# Altium schematic symbol library ASM001-design.SchLib: 91 symbols
Pins are listed as number, name and electrical type; pins without a type are passive.

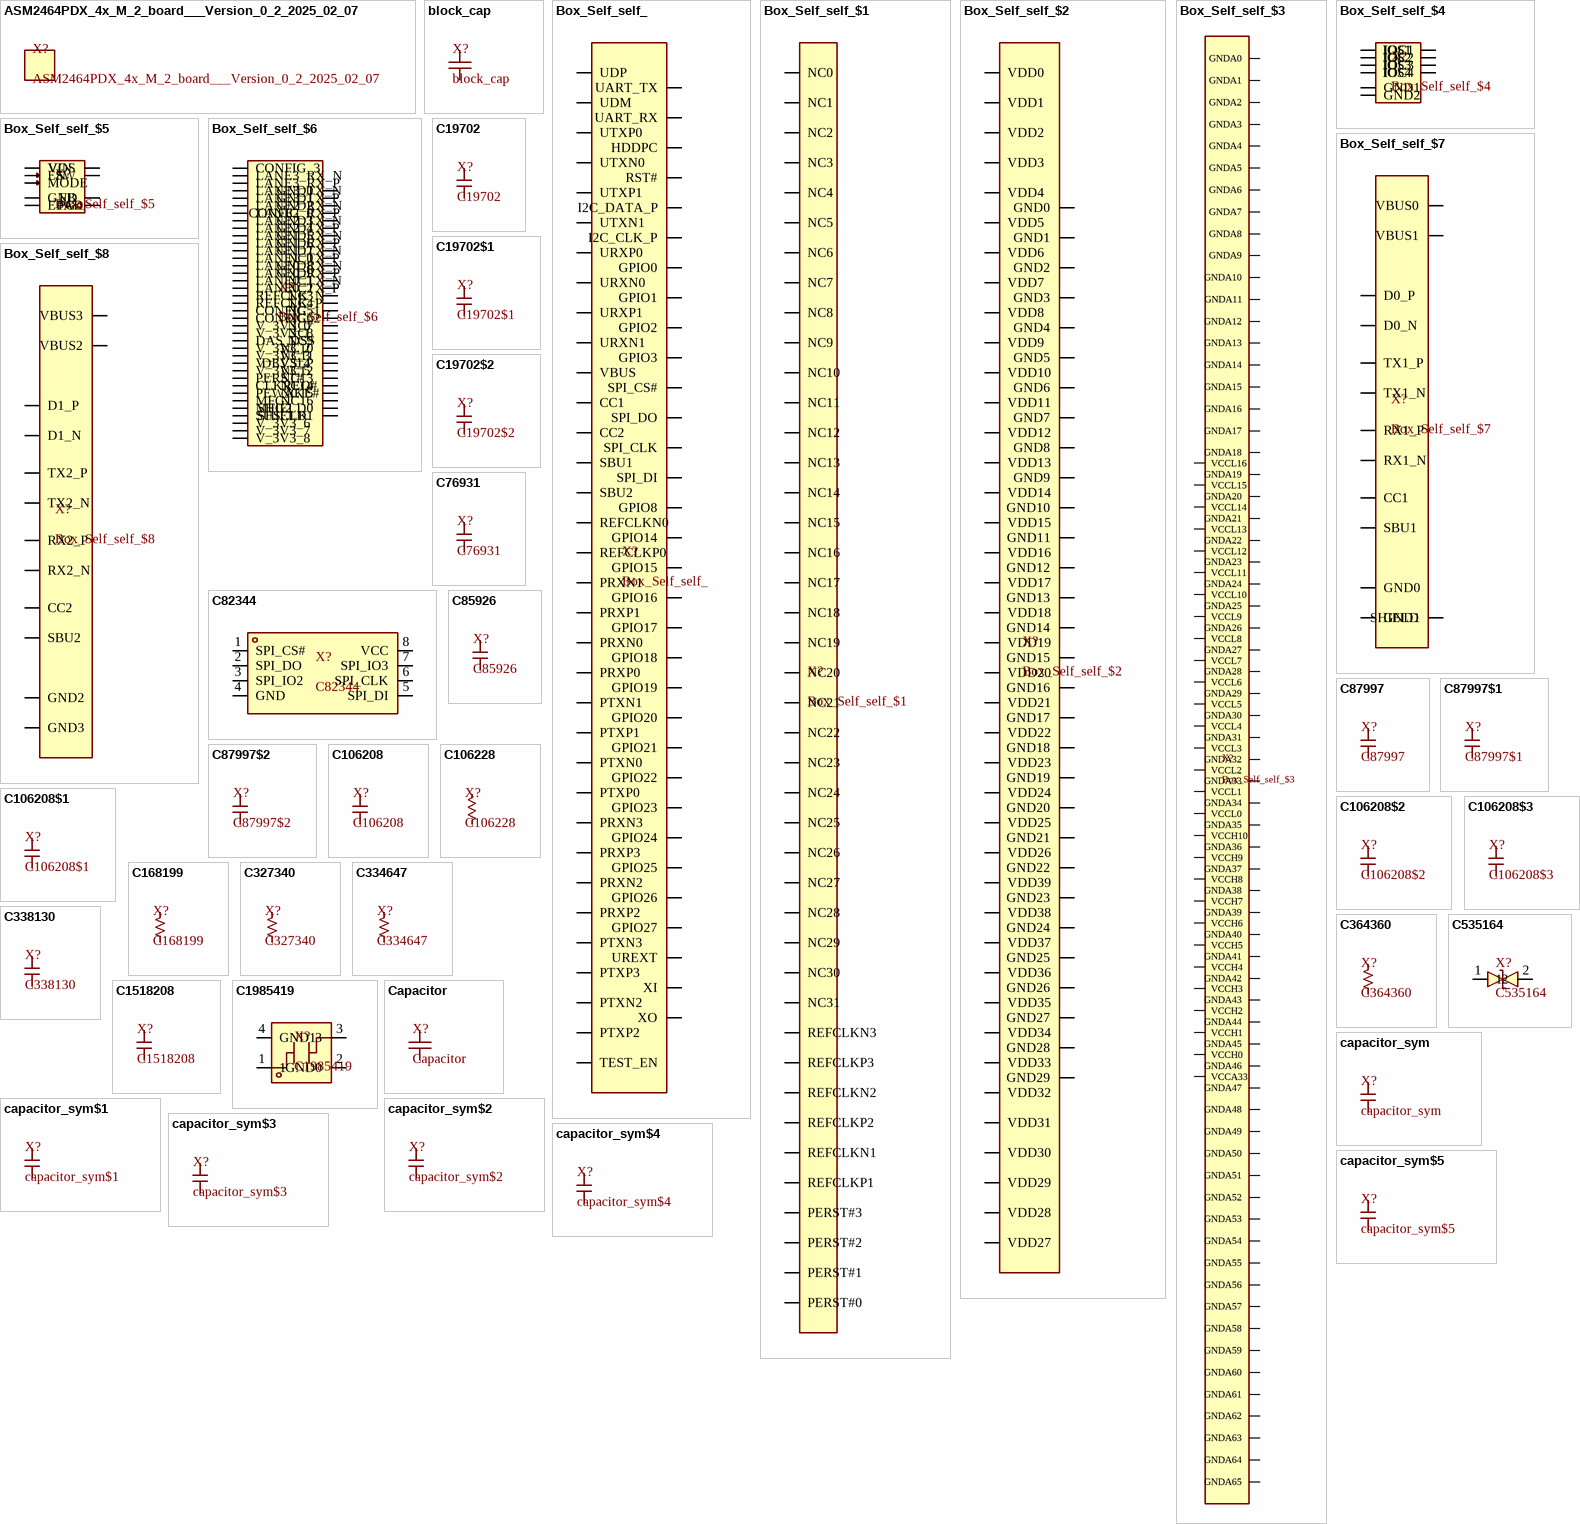
[diagram p0: symbols ASM2464PDX_4x_M_2_board___Version_0_2_2025_02_07 to capacitor_sym$5]

## ASM2464PDX_4x_M_2_board___Version_0_2_2025_02_07
designator X?
VALUE: false; REFERENCE: false; FOOTPRINT: ASM001-design:TEXT_LP; rated-temperature: false
footprint TEXT_LP

## block_cap
designator X?
REFERENCE: false; VALUE: false; FOOTPRINT: ASM001-design:SMT_0201$1
footprint SMT_0201$1
pins: 1, 2

## Box_Self_self_
designator X?
REFERENCE: false; VALUE: false
pins: CC1, CC2, GPIO0, GPIO1, GPIO2, GPIO3, GPIO8, GPIO14, GPIO15, GPIO16, GPIO17, GPIO18, GPIO19, GPIO20, GPIO21, GPIO22, GPIO23, GPIO24, GPIO25, GPIO26, GPIO27, HDDPC, I2C_CLK_P, I2C_DATA_P, PRXN0, PRXN1, PRXN2, PRXN3, PRXP0, PRXP1, PRXP2, PRXP3, PTXN0, PTXN1, PTXN2, PTXN3, PTXP0, PTXP1, PTXP2, PTXP3, REFCLKN0, REFCLKP0, RST#, SBU1, SBU2, SPI_CLK, SPI_CS#, SPI_DI, SPI_DO, TEST_EN, UART_RX, UART_TX, UDM, UDP, UREXT, URXN0, URXN1, URXP0, URXP1, UTXN0, UTXN1, UTXP0, UTXP1, VBUS, XI, XO

## Box_Self_self_$1
designator X?
REFERENCE: false; VALUE: false
pins: NC0, NC1, NC2, NC3, NC4, NC5, NC6, NC7, NC8, NC9, NC10, NC11, NC12, NC13, NC14, NC15, NC16, NC17, NC18, NC19, NC20, NC21, NC22, NC23, NC24, NC25, NC26, NC27, NC28, NC29, NC30, NC31, PERST#0, PERST#1, PERST#2, PERST#3, REFCLKN1, REFCLKN2, REFCLKN3, REFCLKP1, REFCLKP2, REFCLKP3

## Box_Self_self_$2
designator X?
REFERENCE: false; VALUE: false
pins: GND0, GND1, GND2, GND3, GND4, GND5, GND6, GND7, GND8, GND9, GND10, GND11, GND12, GND13, GND14, GND15, GND16, GND17, GND18, GND19, GND20, GND21, GND22, GND23, GND24, GND25, GND26, GND27, GND28, GND29, VDD0, VDD1, VDD2, VDD3, VDD4, VDD5, VDD6, VDD7, VDD8, VDD9, VDD10, VDD11, VDD12, VDD13, VDD14, VDD15, VDD16, VDD17, VDD18, VDD19, VDD20, VDD21, VDD22, VDD23, VDD24, VDD25, VDD26, VDD27, VDD28, VDD29, VDD30, VDD31, VDD32, VDD33, VDD34, VDD35, VDD36, VDD37, VDD38, VDD39

## Box_Self_self_$3
designator X?
REFERENCE: false; VALUE: false
pins: GNDA0, GNDA1, GNDA2, GNDA3, GNDA4, GNDA5, GNDA6, GNDA7, GNDA8, GNDA9, GNDA10, GNDA11, GNDA12, GNDA13, GNDA14, GNDA15, GNDA16, GNDA17, GNDA18, GNDA19, GNDA20, GNDA21, GNDA22, GNDA23, GNDA24, GNDA25, GNDA26, GNDA27, GNDA28, GNDA29, GNDA30, GNDA31, GNDA32, GNDA33, GNDA34, GNDA35, GNDA36, GNDA37, GNDA38, GNDA39, GNDA40, GNDA41, GNDA42, GNDA43, GNDA44, GNDA45, GNDA46, GNDA47, GNDA48, GNDA49, GNDA50, GNDA51, GNDA52, GNDA53, GNDA54, GNDA55, GNDA56, GNDA57, GNDA58, GNDA59, GNDA60, GNDA61, GNDA62, GNDA63, GNDA64, GNDA65, VCCA33, VCCH0, VCCH1, VCCH2, VCCH3, VCCH4, VCCH5, VCCH6, VCCH7, VCCH8, VCCH9, VCCH10, VCCL0, VCCL1, VCCL2, VCCL3, VCCL4, VCCL5, VCCL6, VCCL7, VCCL8, VCCL9, VCCL10, VCCL11, VCCL12, VCCL13, VCCL14, VCCL15, VCCL16

## Box_Self_self_$4
designator X?
REFERENCE: false; VALUE: false
pins: GND1, GND2, IOC1, IOC2, IOC3, IOC4, IOS1, IOS2, IOS3, IOS4

## Box_Self_self_$5
designator X?
REFERENCE: false; VALUE: false
pins: EN, EPAD, FB, GND, MODE, PG, SW, VIN, VOS

## Box_Self_self_$6
designator X?
REFERENCE: false; VALUE: false
pins: CLKREQ#, CONFIG_0, CONFIG_1, CONFIG_2, CONFIG_3, DAS_DSS, DEVSLP, GND0, GND1, GND2, GND3, GND4, GND5, GND6, GND7, GND8, GND9, LANE0_RX_N, LANE0_RX_P, LANE0_TX_N, LANE0_TX_P, LANE1_RX_N, LANE1_RX_P, LANE1_TX_N, LANE1_TX_P, LANE2_RX_N, LANE2_RX_P, LANE2_TX_N, LANE2_TX_P, LANE3_RX_N, LANE3_RX_P, LANE3_TX_N, LANE3_TX_P, MFG1, MFG2, NC0, NC1, NC2, NC3, NC4, NC5, NC6, NC7, NC8, NC9, NC10, NC11, NC12, NC13, NC14, NC15, NC16, PERST#, PEWAKE#, REFCLK_N, REFCLK_P, SHIELD0, SHIELD1, SUSCLK, V_3V3_0, V_3V3_1, V_3V3_2, V_3V3_3, V_3V3_4, V_3V3_5, V_3V3_6, V_3V3_7, V_3V3_8

## Box_Self_self_$7
designator X?
REFERENCE: false; VALUE: false
pins: CC1, D0_N, D0_P, GND0, GND1, RX1_N, RX1_P, SBU1, SHIELD, TX1_N, TX1_P, VBUS0, VBUS1

## Box_Self_self_$8
designator X?
REFERENCE: false; VALUE: false
pins: CC2, D1_N, D1_P, GND2, GND3, RX2_N, RX2_P, SBU2, TX2_N, TX2_P, VBUS2, VBUS3

## C19702
designator X?
manufacturer_aliases: ["Samsung Electro-Mechanics"]; manufacturer: Samsung Electro-Mechanics; mpn_aliases: ["CL10A106KP8NNNC"]; mpn: CL10A106KP8NNNC; REFERENCE: false; VALUE: false; capacitor: true; metadata.applications: General Purpose; metadata.packaging: Cut Tape (CT); reference_prefix: C; area: 1.28; tolerance: Toleranced(9.0e-006 <= 1.0e-005 <= 1.1e-005); rated-voltage: 10.0; query-properties: ["min-rated-voltage" => 1.65 "capacitance" => 1.0e-005 "tolerance" => 0.1 "type" => "ceramic" "temperature-coefficient.code" => ["X7R" "X5R"] "category" => "capacitor" "case" => ["0402" "0603" "0805" "1210"] "mounting" => "smd" "min-stock" => 1 "_sellers" => ["JLCPCB"]]; trust: low; minimum_quantity: 20; cofactr_id: XXV72YFXSLXT; rated-temperature: Toleranced(-55.0 <= 15.0 <= 85.0); capacitance: 1.0e-005; temperature-coefficent: X5R; x: 0.8; y: 1.6; metadata.description: 10V 10uF X5R ±10% 0603  Multilayer Ceramic Capacitors MLCC - SMD/SMT ROHS; FOOTPRINT: ASM001-design:Pkg0603$1; vendor_part_numbers.lcsc: C19702; price: 0.004536232; stock: 5110333; mounting: smd; case: 0603; vendor_part_numbers.digi-key: 1276-1192-1-ND; type: ceramic; category: capacitor
footprint Pkg0603$1
pins: 1, 2

## C19702$1
designator X?
manufacturer_aliases: ["Samsung Electro-Mechanics"]; manufacturer: Samsung Electro-Mechanics; mpn_aliases: ["CL10A106KP8NNNC"]; mpn: CL10A106KP8NNNC; REFERENCE: false; VALUE: false; capacitor: true; metadata.applications: General Purpose; metadata.packaging: Cut Tape (CT); reference_prefix: C; area: 1.28; tolerance: Toleranced(9.0e-006 <= 1.0e-005 <= 1.1e-005); rated-voltage: 10.0; query-properties: ["min-rated-voltage" => 1.65 "capacitance" => 1.0e-005 "tolerance" => 0.1 "type" => "ceramic" "temperature-coefficient.code" => ["X7R" "X5R"] "category" => "capacitor" "case" => ["0402" "0603" "0805" "1210"] "mounting" => "smd" "min-stock" => 1 "_sellers" => ["JLCPCB"]]; trust: low; minimum_quantity: 20; cofactr_id: XXV72YFXSLXT; rated-temperature: Toleranced(-55.0 <= 15.0 <= 85.0); capacitance: 1.0e-005; temperature-coefficent: X5R; x: 0.8; y: 1.6; metadata.description: 10V 10uF X5R ±10% 0603  Multilayer Ceramic Capacitors MLCC - SMD/SMT ROHS; FOOTPRINT: ASM001-design:Pkg0603$2; vendor_part_numbers.lcsc: C19702; price: 0.004536232; stock: 5110333; mounting: smd; case: 0603; vendor_part_numbers.digi-key: 1276-1192-1-ND; type: ceramic; category: capacitor
footprint Pkg0603$2
pins: 1, 2

## C19702$2
designator X?
manufacturer_aliases: ["Samsung Electro-Mechanics"]; manufacturer: Samsung Electro-Mechanics; mpn_aliases: ["CL10A106KP8NNNC"]; mpn: CL10A106KP8NNNC; REFERENCE: false; VALUE: false; capacitor: true; metadata.applications: General Purpose; metadata.packaging: Cut Tape (CT); reference_prefix: C; area: 1.28; tolerance: Toleranced(9.0e-006 <= 1.0e-005 <= 1.1e-005); rated-voltage: 10.0; query-properties: ["min-rated-voltage" => 1.65 "capacitance" => 1.0e-005 "tolerance" => 0.1 "type" => "ceramic" "temperature-coefficient.code" => ["X7R" "X5R"] "category" => "capacitor" "case" => ["0402" "0603" "0805" "1210"] "mounting" => "smd" "min-stock" => 1 "_sellers" => ["JLCPCB"]]; trust: low; minimum_quantity: 20; cofactr_id: XXV72YFXSLXT; rated-temperature: Toleranced(-55.0 <= 15.0 <= 85.0); capacitance: 1.0e-005; temperature-coefficent: X5R; x: 0.8; y: 1.6; metadata.description: 10V 10uF X5R ±10% 0603  Multilayer Ceramic Capacitors MLCC - SMD/SMT ROHS; FOOTPRINT: ASM001-design:Pkg0603$3; vendor_part_numbers.lcsc: C19702; price: 0.004536232; stock: 5110333; mounting: smd; case: 0603; vendor_part_numbers.digi-key: 1276-1192-1-ND; type: ceramic; category: capacitor
footprint Pkg0603$3
pins: 1, 2

## C76931
designator X?
manufacturer_aliases: ["Murata Electronics"]; manufacturer: Murata Electronics; mpn_aliases: ["GRM033R60J224KE15D"]; mpn: GRM033R60J224KE15D; REFERENCE: false; VALUE: false; capacitor: true; metadata.applications: General Purpose; metadata.packaging: Cut Tape (CT); reference_prefix: C; area: 0.18; tolerance: Toleranced(1.98e-007 <= 2.2e-007 <= 2.42e-007); rated-voltage: 6.3; query-properties: ["case" => ["0201" "0603m" "0202" "0606m" "0204" "0510m" "Wide 0402" "0306" "0816m" "Wide 0603" "0402" "1005m" "0505" "1414m" "0508" "1220m" "Wide 0805" "0603" "1608m" "0612" "1632m" "Wide 1206" "0805" "2012m" "1111" "2828m" "1206" "3216m" "1210" "3225m" "1218" "3246m" "Wide 1812" "1225" "3263m" "Wide 2512" "1530" "3876m" "Wide 3015" "1808" "4520m" "1812" "4532m" "1825" "4564m" "1835" "4589" "Wide 3518" "5020m" "2010" "5025m" "2043" "Wide 4320" "2220" "5750m" "2225" "5763m" "2312" "6032m" "2512" "6331m" "2725" "7142m" "2728" "7142m" "Wide 2827" "2816" "2817" "7142m" "2953" "Wide 5929" "3920" "1052m"] "min-capacitance" => 1.35e-007 "max-capacitance" => 265000.0 "tolerance" => 0.1 "type" => "ceramic" "temperature-coefficient.code" => ["X7R" "X5R"] "min-rated-voltage" => 6.0 "category" => "capacitor" "mounting" => "smd" "min-stock" => 1 "_sellers" => ["JLCPCB"]]; trust: low; minimum_quantity: 20; cofactr_id: CCC4JRK6CIEE; rated-temperature: Toleranced(-55.0 <= 15.0 <= 85.0); capacitance: 2.2e-007; temperature-coefficent: X5R; x: 0.3; y: 0.6; metadata.description: 6.3V 220nF X5R ±10% 0201  Multilayer Ceramic Capacitors MLCC - SMD/SMT ROHS; FOOTPRINT: ASM001-design:Pkg0201; vendor_part_numbers.lcsc: C76931; price: 0.002028986; stock: 8578; mounting: smd; case: 0201; vendor_part_numbers.digi-key: 490-10406-1-ND; type: ceramic; category: capacitor
footprint Pkg0201
pins: 1, 2

## C82344
designator X?
manufacturer_aliases: ["Winbond Elec"]; mpn_aliases: ["W25Q32JVSSIQ"]; VALUE: false; cofactr_id: XX0QC6Y2U3XH; reference_prefix: U; x: 5.43; trust: low; y: 9.413; area: 51.113; REFERENCE: false; FOOTPRINT: ASM001-design:LP$1; case: SOIC-8-208mil; mounting: through-hole; category: ic
footprint LP$1
pins: 1 SPI_CS#, 2 SPI_DO, 3 SPI_IO2, 4 GND, 5 SPI_DI, 6 SPI_CLK, 7 SPI_IO3, 8 VCC

## C85926
designator X?
manufacturer_aliases: ["Murata Electronics"]; manufacturer: Murata Electronics; mpn_aliases: ["GRM033R60J474KE90D"]; mpn: GRM033R60J474KE90D; REFERENCE: false; VALUE: false; capacitor: true; metadata.applications: General Purpose; metadata.packaging: Cut Tape (CT); reference_prefix: C; area: 0.18; tolerance: Toleranced(4.23e-007 <= 4.7e-007 <= 5.17e-007); rated-voltage: 6.3; query-properties: ["case" => ["0201" "0603m" "0202" "0606m" "0204" "0510m" "Wide 0402" "0306" "0816m" "Wide 0603" "0402" "1005m" "0505" "1414m" "0508" "1220m" "Wide 0805" "0603" "1608m" "0612" "1632m" "Wide 1206" "0805" "2012m" "1111" "2828m" "1206" "3216m" "1210" "3225m" "1218" "3246m" "Wide 1812" "1225" "3263m" "Wide 2512" "1530" "3876m" "Wide 3015" "1808" "4520m" "1812" "4532m" "1825" "4564m" "1835" "4589" "Wide 3518" "5020m" "2010" "5025m" "2043" "Wide 4320" "2220" "5750m" "2225" "5763m" "2312" "6032m" "2512" "6331m" "2725" "7142m" "2728" "7142m" "Wide 2827" "2816" "2817" "7142m" "2953" "Wide 5929" "3920" "1052m"] "min-capacitance" => 3.0e-007 "max-capacitance" => 363000.0 "tolerance" => 0.1 "type" => "ceramic" "temperature-coefficient.code" => ["X7R" "X5R"] "min-rated-voltage" => 6.0 "category" => "capacitor" "mounting" => "smd" "min-stock" => 1 "_sellers" => ["JLCPCB"]]; trust: low; minimum_quantity: 20; cofactr_id: CCIA9C79QNHV; rated-temperature: Toleranced(-55.0 <= 15.0 <= 85.0); capacitance: 4.7e-007; temperature-coefficent: X5R; x: 0.3; y: 0.6; metadata.description: 6.3V 470nF X5R ±10% 0201  Multilayer Ceramic Capacitors MLCC - SMD/SMT ROHS; FOOTPRINT: ASM001-design:Pkg0201$3; vendor_part_numbers.lcsc: C85926; price: 0.002376812; stock: 47487; mounting: smd; case: 0201; vendor_part_numbers.digi-key: 490-10409-1-ND; type: ceramic; category: capacitor
footprint Pkg0201$3
pins: 1, 2

## C87997
designator X?
manufacturer_aliases: ["Samsung Electro-Mechanics"]; manufacturer: Samsung Electro-Mechanics; mpn_aliases: ["CL21A226KQQNNNE"]; mpn: CL21A226KQQNNNE; REFERENCE: false; VALUE: false; capacitor: true; metadata.applications: General Purpose; metadata.packaging: Tape & Reel (TR); reference_prefix: C; area: 2.4; tolerance: Toleranced(1.98e-005 <= 2.2e-005 <= 2.42e-005); rated-voltage: 6.3; query-properties: ["min-rated-voltage" => 0.5985 "capacitance" => 2.2e-005 "tolerance" => 0.1 "type" => "ceramic" "temperature-coefficient.code" => ["X7R" "X5R"] "category" => "capacitor" "case" => ["0402" "0603" "0805" "1210"] "mounting" => "smd" "min-stock" => 1 "_sellers" => ["JLCPCB"]]; trust: low; minimum_quantity: 5; cofactr_id: CC3ZNPURR0Q3; rated-temperature: Toleranced(-55.0 <= 15.0 <= 85.0); capacitance: 2.2e-005; temperature-coefficent: X5R; x: 1.2; y: 2.0; metadata.description: 6.3V 22uF X5R ±10% 0805  Multilayer Ceramic Capacitors MLCC - SMD/SMT ROHS; FOOTPRINT: ASM001-design:Pkg0805$2; vendor_part_numbers.lcsc: C87997; price: 0.024202899; stock: 6100; mounting: smd; case: 0805; vendor_part_numbers.digi-key: 1276-2907-2-ND; type: ceramic; category: capacitor
footprint Pkg0805$2
pins: 1, 2

## C87997$1
designator X?
manufacturer_aliases: ["Samsung Electro-Mechanics"]; manufacturer: Samsung Electro-Mechanics; mpn_aliases: ["CL21A226KQQNNNE"]; mpn: CL21A226KQQNNNE; REFERENCE: false; VALUE: false; capacitor: true; metadata.applications: General Purpose; metadata.packaging: Tape & Reel (TR); reference_prefix: C; area: 2.4; tolerance: Toleranced(1.98e-005 <= 2.2e-005 <= 2.42e-005); rated-voltage: 6.3; query-properties: ["min-rated-voltage" => 0.35595 "capacitance" => 2.2e-005 "tolerance" => 0.1 "type" => "ceramic" "temperature-coefficient.code" => ["X7R" "X5R"] "category" => "capacitor" "case" => ["0402" "0603" "0805" "1210"] "mounting" => "smd" "min-stock" => 1 "_sellers" => ["JLCPCB"]]; trust: low; minimum_quantity: 5; cofactr_id: CC3ZNPURR0Q3; rated-temperature: Toleranced(-55.0 <= 15.0 <= 85.0); capacitance: 2.2e-005; temperature-coefficent: X5R; x: 1.2; y: 2.0; metadata.description: 6.3V 22uF X5R ±10% 0805  Multilayer Ceramic Capacitors MLCC - SMD/SMT ROHS; FOOTPRINT: ASM001-design:Pkg0805; vendor_part_numbers.lcsc: C87997; price: 0.024202899; stock: 6100; mounting: smd; case: 0805; vendor_part_numbers.digi-key: 1276-2907-2-ND; type: ceramic; category: capacitor
footprint Pkg0805
pins: 1, 2

## C87997$2
designator X?
manufacturer_aliases: ["Samsung Electro-Mechanics"]; manufacturer: Samsung Electro-Mechanics; mpn_aliases: ["CL21A226KQQNNNE"]; mpn: CL21A226KQQNNNE; REFERENCE: false; VALUE: false; capacitor: true; metadata.applications: General Purpose; metadata.packaging: Tape & Reel (TR); reference_prefix: C; area: 2.4; tolerance: Toleranced(1.98e-005 <= 2.2e-005 <= 2.42e-005); rated-voltage: 6.3; query-properties: ["min-rated-voltage" => 1.0197 "capacitance" => 2.2e-005 "tolerance" => 0.1 "type" => "ceramic" "temperature-coefficient.code" => ["X7R" "X5R"] "category" => "capacitor" "case" => ["0402" "0603" "0805" "1210"] "mounting" => "smd" "min-stock" => 1 "_sellers" => ["JLCPCB"]]; trust: low; minimum_quantity: 5; cofactr_id: CC3ZNPURR0Q3; rated-temperature: Toleranced(-55.0 <= 15.0 <= 85.0); capacitance: 2.2e-005; temperature-coefficent: X5R; x: 1.2; y: 2.0; metadata.description: 6.3V 22uF X5R ±10% 0805  Multilayer Ceramic Capacitors MLCC - SMD/SMT ROHS; FOOTPRINT: ASM001-design:Pkg0805$1; vendor_part_numbers.lcsc: C87997; price: 0.024202899; stock: 6100; mounting: smd; case: 0805; vendor_part_numbers.digi-key: 1276-2907-2-ND; type: ceramic; category: capacitor
footprint Pkg0805$1
pins: 1, 2

## C106208
designator X?
manufacturer_aliases: ["YAGEO"]; manufacturer: YAGEO; mpn_aliases: ["CC0402KRX7R9BB472"]; mpn: CC0402KRX7R9BB472; REFERENCE: false; VALUE: false; capacitor: true; metadata.applications: General Purpose; metadata.packaging: Tape & Reel (TR); reference_prefix: C; area: 0.5; tolerance: Toleranced(4.23e-009 <= 4.7e-009 <= 5.17e-009); rated-voltage: 50.0; query-properties: ["min-rated-voltage" => 0.5985 "capacitance" => 4.7e-009 "tolerance" => 0.1 "type" => "ceramic" "temperature-coefficient.code" => ["X7R" "X5R"] "category" => "capacitor" "case" => ["0402" "0603" "0805" "1210"] "mounting" => "smd" "min-stock" => 1 "_sellers" => ["JLCPCB"]]; trust: low; minimum_quantity: 20; cofactr_id: CC7G7J78HHCN; rated-temperature: Toleranced(-55.0 <= 35.0 <= 125.0); capacitance: 4.7e-009; temperature-coefficent: X7R; y: 1.0; metadata.description: 50V 4.7nF X7R ±10% 0402  Multilayer Ceramic Capacitors MLCC - SMD/SMT ROHS; FOOTPRINT: ASM001-design:Pkg0402$11; vendor_part_numbers.lcsc: C106208; price: 0.000884058; stock: 91353; mounting: smd; case: 0402; vendor_part_numbers.digi-key: 311-1418-2-ND; x: 0.5; type: ceramic; category: capacitor
footprint Pkg0402$11
pins: 1, 2

## C106208$1
designator X?
manufacturer_aliases: ["YAGEO"]; manufacturer: YAGEO; mpn_aliases: ["CC0402KRX7R9BB472"]; mpn: CC0402KRX7R9BB472; REFERENCE: false; VALUE: false; capacitor: true; metadata.applications: General Purpose; metadata.packaging: Tape & Reel (TR); reference_prefix: C; area: 0.5; tolerance: Toleranced(4.23e-009 <= 4.7e-009 <= 5.17e-009); rated-voltage: 50.0; query-properties: ["capacitance" => 4.7e-009 "tolerance" => 0.1 "type" => "ceramic" "temperature-coefficient.code" => ["X7R" "X5R"] "min-rated-voltage" => 6.0 "category" => "capacitor" "case" => ["0402" "0603" "0805" "1210"] "mounting" => "smd" "min-stock" => 1 "_sellers" => ["JLCPCB"]]; trust: low; minimum_quantity: 20; cofactr_id: CC7G7J78HHCN; rated-temperature: Toleranced(-55.0 <= 35.0 <= 125.0); capacitance: 4.7e-009; temperature-coefficent: X7R; y: 1.0; metadata.description: 50V 4.7nF X7R ±10% 0402  Multilayer Ceramic Capacitors MLCC - SMD/SMT ROHS; FOOTPRINT: ASM001-design:Pkg0402$8; vendor_part_numbers.lcsc: C106208; price: 0.000884058; stock: 91353; mounting: smd; case: 0402; vendor_part_numbers.digi-key: 311-1418-2-ND; x: 0.5; type: ceramic; category: capacitor
footprint Pkg0402$8
pins: 1, 2

## C106208$2
designator X?
manufacturer_aliases: ["YAGEO"]; manufacturer: YAGEO; mpn_aliases: ["CC0402KRX7R9BB472"]; mpn: CC0402KRX7R9BB472; REFERENCE: false; VALUE: false; capacitor: true; metadata.applications: General Purpose; metadata.packaging: Tape & Reel (TR); reference_prefix: C; area: 0.5; tolerance: Toleranced(4.23e-009 <= 4.7e-009 <= 5.17e-009); rated-voltage: 50.0; query-properties: ["min-rated-voltage" => 0.35595 "capacitance" => 4.7e-009 "tolerance" => 0.1 "type" => "ceramic" "temperature-coefficient.code" => ["X7R" "X5R"] "category" => "capacitor" "case" => ["0402" "0603" "0805" "1210"] "mounting" => "smd" "min-stock" => 1 "_sellers" => ["JLCPCB"]]; trust: low; minimum_quantity: 20; cofactr_id: CC7G7J78HHCN; rated-temperature: Toleranced(-55.0 <= 35.0 <= 125.0); capacitance: 4.7e-009; temperature-coefficent: X7R; y: 1.0; metadata.description: 50V 4.7nF X7R ±10% 0402  Multilayer Ceramic Capacitors MLCC - SMD/SMT ROHS; FOOTPRINT: ASM001-design:Pkg0402$15; vendor_part_numbers.lcsc: C106208; price: 0.000884058; stock: 91353; mounting: smd; case: 0402; vendor_part_numbers.digi-key: 311-1418-2-ND; x: 0.5; type: ceramic; category: capacitor
footprint Pkg0402$15
pins: 1, 2

## C106208$3
designator X?
manufacturer_aliases: ["YAGEO"]; manufacturer: YAGEO; mpn_aliases: ["CC0402KRX7R9BB472"]; mpn: CC0402KRX7R9BB472; REFERENCE: false; VALUE: false; capacitor: true; metadata.applications: General Purpose; metadata.packaging: Tape & Reel (TR); reference_prefix: C; area: 0.5; tolerance: Toleranced(4.23e-009 <= 4.7e-009 <= 5.17e-009); rated-voltage: 50.0; query-properties: ["min-rated-voltage" => 1.0197 "capacitance" => 4.7e-009 "tolerance" => 0.1 "type" => "ceramic" "temperature-coefficient.code" => ["X7R" "X5R"] "category" => "capacitor" "case" => ["0402" "0603" "0805" "1210"] "mounting" => "smd" "min-stock" => 1 "_sellers" => ["JLCPCB"]]; trust: low; minimum_quantity: 20; cofactr_id: CC7G7J78HHCN; rated-temperature: Toleranced(-55.0 <= 35.0 <= 125.0); capacitance: 4.7e-009; temperature-coefficent: X7R; y: 1.0; metadata.description: 50V 4.7nF X7R ±10% 0402  Multilayer Ceramic Capacitors MLCC - SMD/SMT ROHS; FOOTPRINT: ASM001-design:Pkg0402$4; vendor_part_numbers.lcsc: C106208; price: 0.000884058; stock: 91353; mounting: smd; case: 0402; vendor_part_numbers.digi-key: 311-1418-2-ND; x: 0.5; type: ceramic; category: capacitor
footprint Pkg0402$4
pins: 1, 2

## C106228
designator X?
REFERENCE: false; VALUE: false; FOOTPRINT: ASM001-design:SMT_0201
footprint SMT_0201
pins: 1, 2

## C168199
designator X?
manufacturer_aliases: ["Walsin Technology Corporation"]; manufacturer: Walsin Technology Corporation; mpn_aliases: ["WR04X1212FTL"]; mpn: WR04X1212FTL; REFERENCE: false; VALUE: false; metadata.number-of-terminations: 2.0; TCR: [-0.0001 0.0001]; metadata.packaging: Tape & Reel (TR); reference_prefix: R; resistor: true; area: 0.5; tolerance: Toleranced(11979.0 <= 12100.0 <= 12221.0); query-properties: ["tolerance" => 0.01 "case" => ["0201" "0402"] "resistance" => 12100.0 "category" => "resistor" "mounting" => "smd" "min-stock" => 1 "_sellers" => ["JLCPCB"]]; trust: low; minimum_quantity: 20; cofactr_id: XX5RG112LRR9; rated-temperature: Toleranced(-55.0 <= 50.0 <= 155.0); y: 1.0; resistance: 12100.0; rated-power: 0.063; metadata.description: 62.5mW Thick Film Resistors ±100ppm/℃ ±1% 12.1kΩ 0402  Chip Resistor - Surface Mount ROHS; FOOTPRINT: ASM001-design:Pkg0402$5; vendor_part_numbers.lcsc: C168199; price: 0.000362319; stock: 3370; mounting: smd; composition: thick-film; case: 0402; metadata.supplier-device-package: 402; vendor_part_numbers.digi-key: 1292-WR04X1212FTLTR-ND; x: 0.5; type: chip; category: resistor
footprint Pkg0402$5
pins: 1, 2

## C327340
designator X?
manufacturer_aliases: ["YAGEO"]; manufacturer: YAGEO; mpn_aliases: ["RC0402FR-074K12L"]; mpn: RC0402FR-074K12L; REFERENCE: false; VALUE: false; metadata.number-of-terminations: 2.0; TCR: [-0.0001 0.0001]; metadata.packaging: Tape & Reel (TR); reference_prefix: R; resistor: true; area: 0.5; tolerance: Toleranced(4078.8 <= 4120.0 <= 4161.2); query-properties: ["tolerance" => 0.01 "_exist" => ["tcr.pos" "tcr.neg"] "resistance" => 4120.0 "category" => "resistor" "case" => ["0402" "0603" "0805" "1210"] "mounting" => "smd" "min-stock" => 1 "_sellers" => ["JLCPCB"]]; trust: low; minimum_quantity: 20; metadata.features: Moisture Resistant; cofactr_id: XX5JAF8ZBICW; rated-temperature: Toleranced(-55.0 <= 50.0 <= 155.0); y: 1.0; resistance: 4120.0; rated-power: 0.063; metadata.description: 62.5mW Thick Film Resistors ±100ppm/℃ ±1% 4.12kΩ 0402  Chip Resistor - Surface Mount ROHS; FOOTPRINT: ASM001-design:Pkg0402$13; vendor_part_numbers.lcsc: C327340; price: 0.000521739; stock: 272; mounting: smd; composition: thick-film; case: 0402; metadata.supplier-device-package: 402; vendor_part_numbers.digi-key: YAG3171TR-ND; x: 0.5; type: chip; category: resistor
footprint Pkg0402$13
pins: 1, 2

## C334647
designator X?
manufacturer_aliases: ["Walsin Technology Corporation"]; manufacturer: Walsin Technology Corporation; mpn_aliases: ["WR04X1332FTL"]; mpn: WR04X1332FTL; REFERENCE: false; VALUE: false; metadata.number-of-terminations: 2.0; TCR: [-0.0001 0.0001]; metadata.packaging: Tape & Reel (TR); reference_prefix: R; resistor: true; area: 0.5; tolerance: Toleranced(13167.0 <= 13300.0 <= 13433.0); query-properties: ["tolerance" => 0.01 "_exist" => ["tcr.pos" "tcr.neg"] "resistance" => 13300.0 "category" => "resistor" "case" => ["0402" "0603" "0805" "1210"] "mounting" => "smd" "min-stock" => 1 "_sellers" => ["JLCPCB"]]; trust: low; minimum_quantity: 20; cofactr_id: RCAMEG8S2B67; rated-temperature: Toleranced(-55.0 <= 50.0 <= 155.0); y: 1.0; resistance: 13300.0; rated-power: 0.063; metadata.description: 62.5mW Thick Film Resistors ±100ppm/℃ ±1% 13.3kΩ 0402  Chip Resistor - Surface Mount ROHS; FOOTPRINT: ASM001-design:Pkg0402$9; vendor_part_numbers.lcsc: C334647; price: 0.000550725; stock: 1593; mounting: smd; composition: thick-film; case: 0402; metadata.supplier-device-package: 402; vendor_part_numbers.digi-key: 1292-WR04X1332FTLTR-ND; x: 0.5; type: chip; category: resistor
footprint Pkg0402$9
pins: 1, 2

## C338130
designator X?
manufacturer_aliases: ["Walsin Technology Corporation"]; manufacturer: Walsin Technology Corporation; mpn_aliases: ["0402B222K500CT"]; mpn: 0402B222K500CT; REFERENCE: false; VALUE: false; capacitor: true; metadata.applications: General Purpose; metadata.packaging: Tape & Reel (TR); reference_prefix: C; area: 0.5; tolerance: Toleranced(1.98e-009 <= 2.2e-009 <= 2.42e-009); rated-voltage: 50.0; query-properties: ["tolerance" => 0.1 "case" => ["0201" "0603m" "0202" "0606m" "0204" "0510m" "Wide 0402" "0306" "0816m" "Wide 0603" "0402" "1005m" "0505" "1414m" "0508" "1220m" "Wide 0805" "0603" "1608m" "0612" "1632m" "Wide 1206" "0805" "2012m" "1111" "2828m" "1206" "3216m" "1210" "3225m" "1218" "3246m" "Wide 1812" "1225" "3263m" "Wide 2512" "1530" "3876m" "Wide 3015" "1808" "4520m" "1812" "4532m" "1825" "4564m" "1835" "4589" "Wide 3518" "5020m" "2010" "5025m" "2043" "Wide 4320" "2220" "5750m" "2225" "5763m" "2312" "6032m" "2512" "6331m" "2725" "7142m" "2728" "7142m" "Wide 2827" "2816" "2817" "7142m" "2953" "Wide 5929" "3920" "1052m"] "rated-voltage" => 50.0 "capacitance" => 2.2e-009 "type" => "ceramic" "temperature-coefficient.code" => ["X7R" "X5R"] "category" => "capacitor" "mounting" => "smd" "min-stock" => 1 "_sellers" => ["JLCPCB"]]; trust: low; minimum_quantity: 20; cofactr_id: CCV6Z375U8GT; rated-temperature: Toleranced(-55.0 <= 35.0 <= 125.0); capacitance: 2.2e-009; temperature-coefficent: X7R; y: 1.0; metadata.description: 50V 2.2nF X7R ±10% 0402  Multilayer Ceramic Capacitors MLCC - SMD/SMT ROHS; FOOTPRINT: ASM001-design:Pkg0402$1; vendor_part_numbers.lcsc: C338130; price: 0.000913043; stock: 10095; mounting: smd; case: 0402; vendor_part_numbers.digi-key: 1292-1193-2-ND; x: 0.5; type: ceramic; category: capacitor
footprint Pkg0402$1
pins: 1, 2

## C364360
designator X?
manufacturer_aliases: ["YAGEO"]; manufacturer: YAGEO; mpn_aliases: ["RC0402FR-076K49L"]; mpn: RC0402FR-076K49L; REFERENCE: false; VALUE: false; metadata.number-of-terminations: 2.0; TCR: [-0.0001 0.0001]; metadata.packaging: Tape & Reel (TR); reference_prefix: R; resistor: true; area: 0.5; tolerance: Toleranced(6425.1 <= 6490.0 <= 6554.9); query-properties: ["tolerance" => 0.01 "_exist" => ["tcr.pos" "tcr.neg"] "resistance" => 6490.0 "category" => "resistor" "case" => ["0402" "0603" "0805" "1210"] "mounting" => "smd" "min-stock" => 1 "_sellers" => ["JLCPCB"]]; trust: low; minimum_quantity: 20; metadata.features: Moisture Resistant; cofactr_id: RCKZPCG5OWB6; rated-temperature: Toleranced(-55.0 <= 50.0 <= 155.0); y: 1.0; resistance: 6490.0; rated-power: 0.063; metadata.description: 62.5mW Thick Film Resistors ±100ppm/℃ ±1% 6.49kΩ 0402  Chip Resistor - Surface Mount ROHS; FOOTPRINT: ASM001-design:Pkg0402$14; vendor_part_numbers.lcsc: C364360; price: 0.000521739; stock: 658; mounting: smd; composition: thick-film; case: 0402; metadata.supplier-device-package: 402; vendor_part_numbers.digi-key: 311-6.49KLRTR-ND; x: 0.5; type: chip; category: resistor
footprint Pkg0402$14
pins: 1, 2

## C535164
designator X?
manufacturer_aliases: ["Infineon Technologies"]; mpn_aliases: ["ESD132-B1-W0201 E6327"]; VALUE: false; cofactr_id: XXRARWCT0RJE; reference_prefix: U; x: 1.102; trust: low; y: 0.762; area: 0.84; REFERENCE: false; FOOTPRINT: ASM001-design:LP$3; case: WLL-2-3; category: ic
footprint LP$3
pins: 1, 2

## C1518208
designator X?
manufacturer_aliases: ["Murata Electronics"]; manufacturer: Murata Electronics; mpn_aliases: ["GRM155R61H105KE05D"]; mpn: GRM155R61H105KE05D; REFERENCE: false; VALUE: false; capacitor: true; metadata.applications: General Purpose; metadata.packaging: Tape & Reel (TR); reference_prefix: C; area: 0.5; tolerance: Toleranced(9.0e-007 <= 1.0e-006 <= 1.1e-006); rated-voltage: 50.0; query-properties: ["case" => ["0201" "0402"] "rated-voltage" => 50.0 "capacitance" => 1.0e-006 "tolerance" => 0.1 "type" => "ceramic" "temperature-coefficient.code" => ["X7R" "X5R"] "category" => "capacitor" "mounting" => "smd" "min-stock" => 1 "_sellers" => ["JLCPCB"]]; trust: low; minimum_quantity: 5; cofactr_id: CCK5EGLHOV3I; rated-temperature: Toleranced(-55.0 <= 15.0 <= 85.0); capacitance: 1.0e-006; temperature-coefficent: X5R; y: 1.0; metadata.description: 50V 1uF X5R ±10% 0402  Multilayer Ceramic Capacitors MLCC - SMD/SMT ROHS; FOOTPRINT: ASM001-design:Pkg0402$2; vendor_part_numbers.lcsc: C1518208; price: 0.025652174; stock: 222336; mounting: smd; case: 0402; vendor_part_numbers.digi-key: 490-GRM155R61H105KE05DTR-ND; x: 0.5; type: ceramic; category: capacitor
footprint Pkg0402$2
pins: 1, 2

## C1985419
designator X?
manufacturer_aliases: ["Abracon LLC"]; mpn_aliases: ["ABMM2-25.000MHZ-D1-T"]; VALUE: false; cofactr_id: OSDU487NIJMB; reference_prefix: X; x: 6.302; trust: low; y: 3.901; area: 24.584; REFERENCE: false; FOOTPRINT: ASM001-design:LP$2; case: SMD6036-4P; mounting: smd; category: resonator
footprint LP$2
pins: 1, 2 GND0, 3, 4 GND1

## Capacitor
designator X?
REFERENCE: false; VALUE: false
pins: 1, 2

## capacitor_sym
designator X?
REFERENCE: false; VALUE: false
pins: 1, 2

## capacitor_sym$1
designator X?
REFERENCE: false; VALUE: false
pins: 1, 2

## capacitor_sym$2
designator X?
REFERENCE: false; VALUE: false
pins: 1, 2

## capacitor_sym$3
designator X?
REFERENCE: false; VALUE: false
pins: 1, 2

## capacitor_sym$4
designator X?
REFERENCE: false; VALUE: false
pins: 1, 2

## capacitor_sym$5
designator X?
REFERENCE: false; VALUE: false
pins: 1, 2

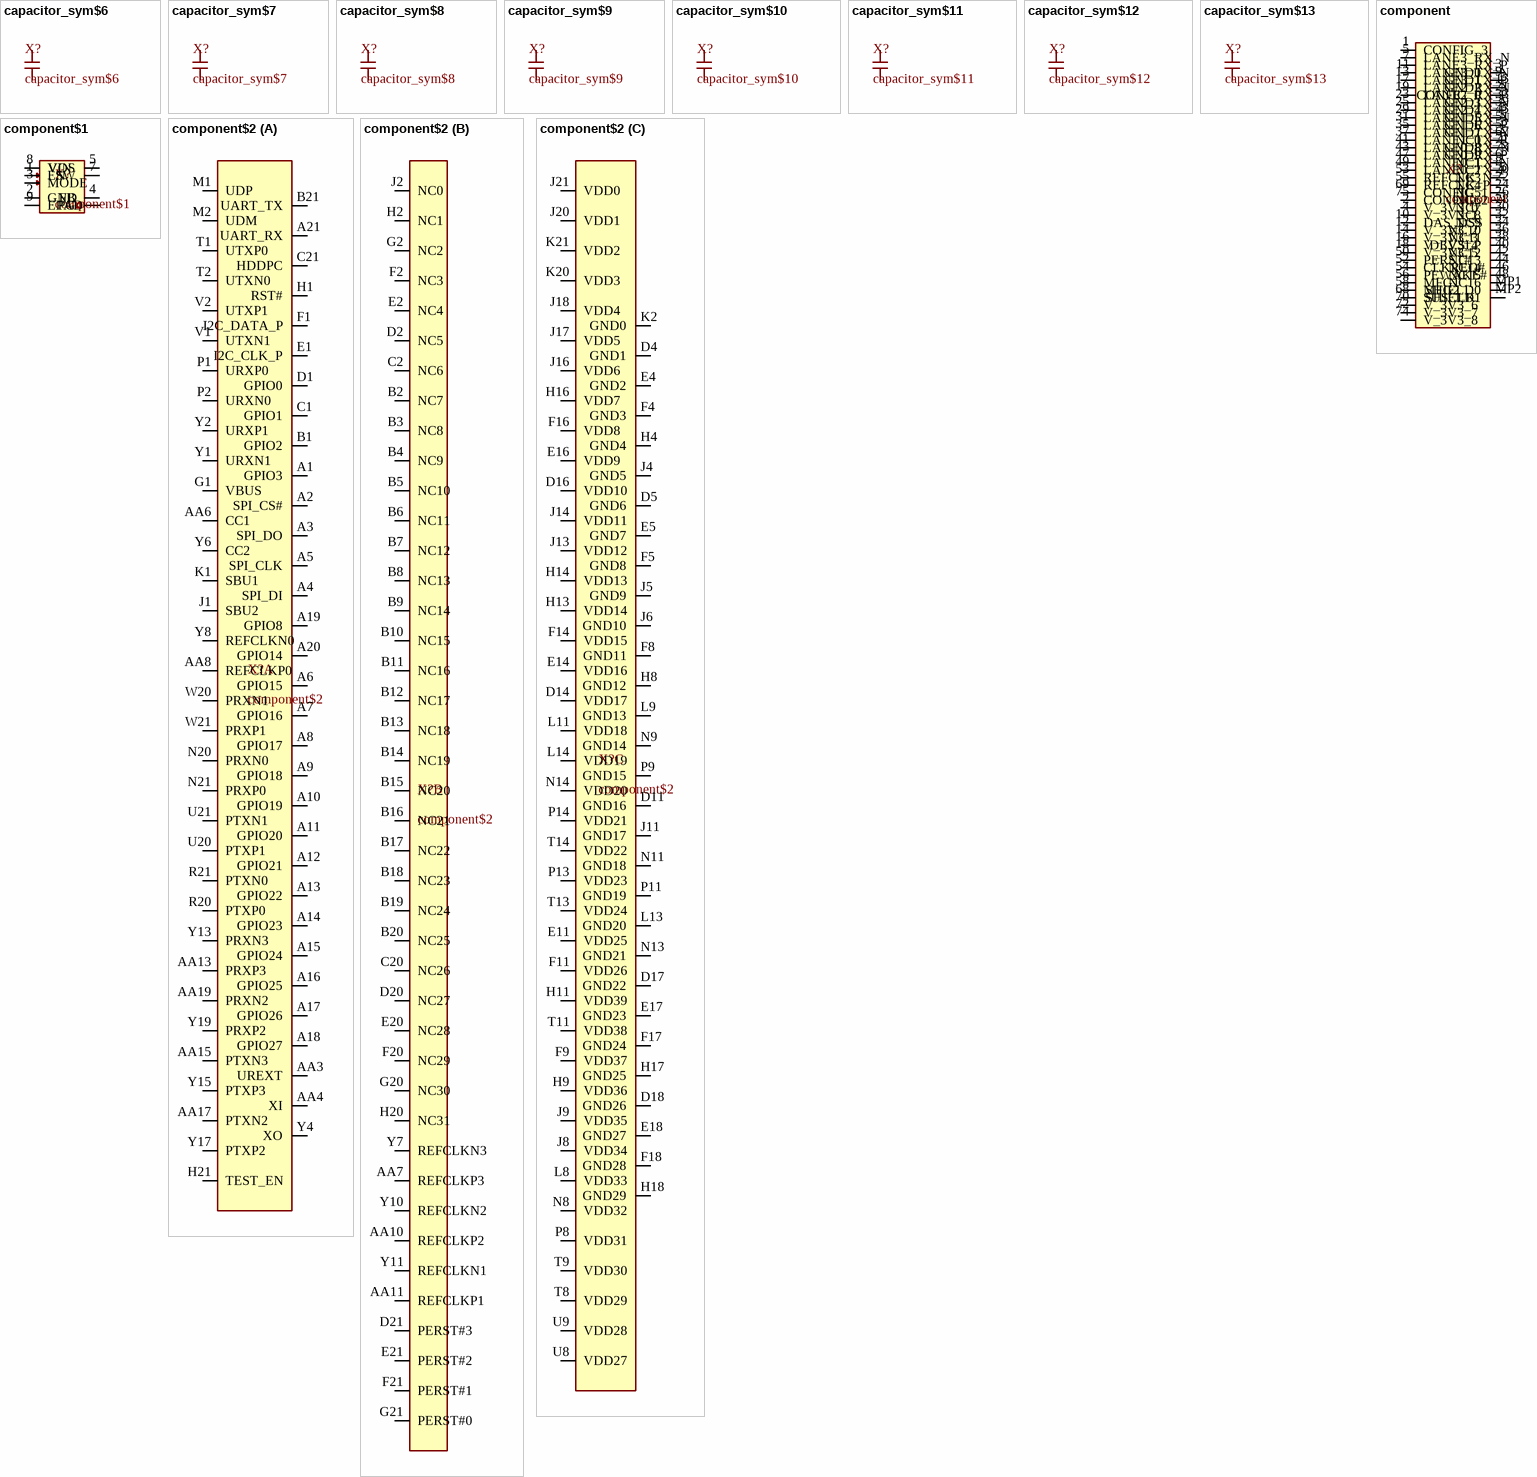
[diagram p1: symbols capacitor_sym$6 to component$2]

## capacitor_sym$6
designator X?
REFERENCE: false; VALUE: false
pins: 1, 2

## capacitor_sym$7
designator X?
REFERENCE: false; VALUE: false
pins: 1, 2

## capacitor_sym$8
designator X?
REFERENCE: false; VALUE: false
pins: 1, 2

## capacitor_sym$9
designator X?
REFERENCE: false; VALUE: false
pins: 1, 2

## capacitor_sym$10
designator X?
REFERENCE: false; VALUE: false
pins: 1, 2

## capacitor_sym$11
designator X?
REFERENCE: false; VALUE: false
pins: 1, 2

## capacitor_sym$12
designator X?
REFERENCE: false; VALUE: false
pins: 1, 2

## capacitor_sym$13
designator X?
REFERENCE: false; VALUE: false
pins: 1, 2

## component
designator X?
manufacturer: TE Connectivity; REFERENCE: false; VALUE: false; FOOTPRINT: ASM001-design:LP_1_2199230_6; Digi-Key_Part_Number: A118046TR-ND
footprint LP_1_2199230_6
pins: 1 CONFIG_3, 2 V_3V3_0, 3 GND0, 4 V_3V3_1, 5 LANE3_RX_N, 6 NC1, 7 LANE3_RX_P, 8 NC2, 9 GND1, 10 DAS_DSS, 11 LANE3_TX_N, 12 V_3V3_2, 13 LANE3_TX_P, 14 V_3V3_3, 15 GND2, 16 V_3V3_4, 17 LANE2_RX_N, 18 V_3V3_5, 19 LANE2_RX_P, 20 NC3, 21 CONFIG_0, 22 NC4, 23 LANE2_TX_N, 24 NC5, 25 LANE2_TX_P, 26 NC6, 28 NC7, 29 LANE1_RX_N, 30 NC8, 31 LANE1_RX_P, 32 NC9, 33 GND3, 34 NC10, 35 LANE1_TX_N, 36 NC11, 37 LANE1_TX_P, 38 DEVSLP, 39 GND4, 40 NC12, 41 LANE0_RX_N, 42 NC13, 43 LANE0_RX_P, 44 NC14, 45 GND5, 46 NC15, 47 LANE0_TX_N, 48 NC16, 49 LANE0_TX_P, 50 PERST#, 51 GND6, 52 CLKREQ#, 53 REFCLK_N, 54 PEWAKE#, 55 REFCLK_P, 56 MFG1, 57 GND7, 58 MFG2, 67 NC0, 68 SUSCLK, 69 CONFIG_1, 70 V_3V3_6, 71 GND8, 72 V_3V3_7, 73 GND9, 74 V_3V3_8, 75 CONFIG_2, MP1 SHIELD0, MP2 SHIELD1

## component$1
designator X?
REFERENCE: false; VALUE: false; Vin-MIN: 2.3; Vin-MAX: 6.0; R-Discharge: Toleranced(1000.0 <= 1000.0 <= 1000.0); I-LIM: Toleranced(1.6 <= 2.8 <= 4.0); V-REF: Toleranced(0.438 <= 0.45 <= 0.462); Vout-MIN: 0.5; Vout-MAX: 4.0; I-REF: Toleranced(1.0e-008 <= 1.0e-008 <= 1.0e-007); FOOTPRINT: ASM001-design:SON50P200X200_9N; adjustable: false
footprint SON50P200X200_9N
pins: 1 EN, 2 GND, 3 MODE, 4 FB, 5 VOS, 6 PG, 7 SW, 8 VIN, 9 EPAD

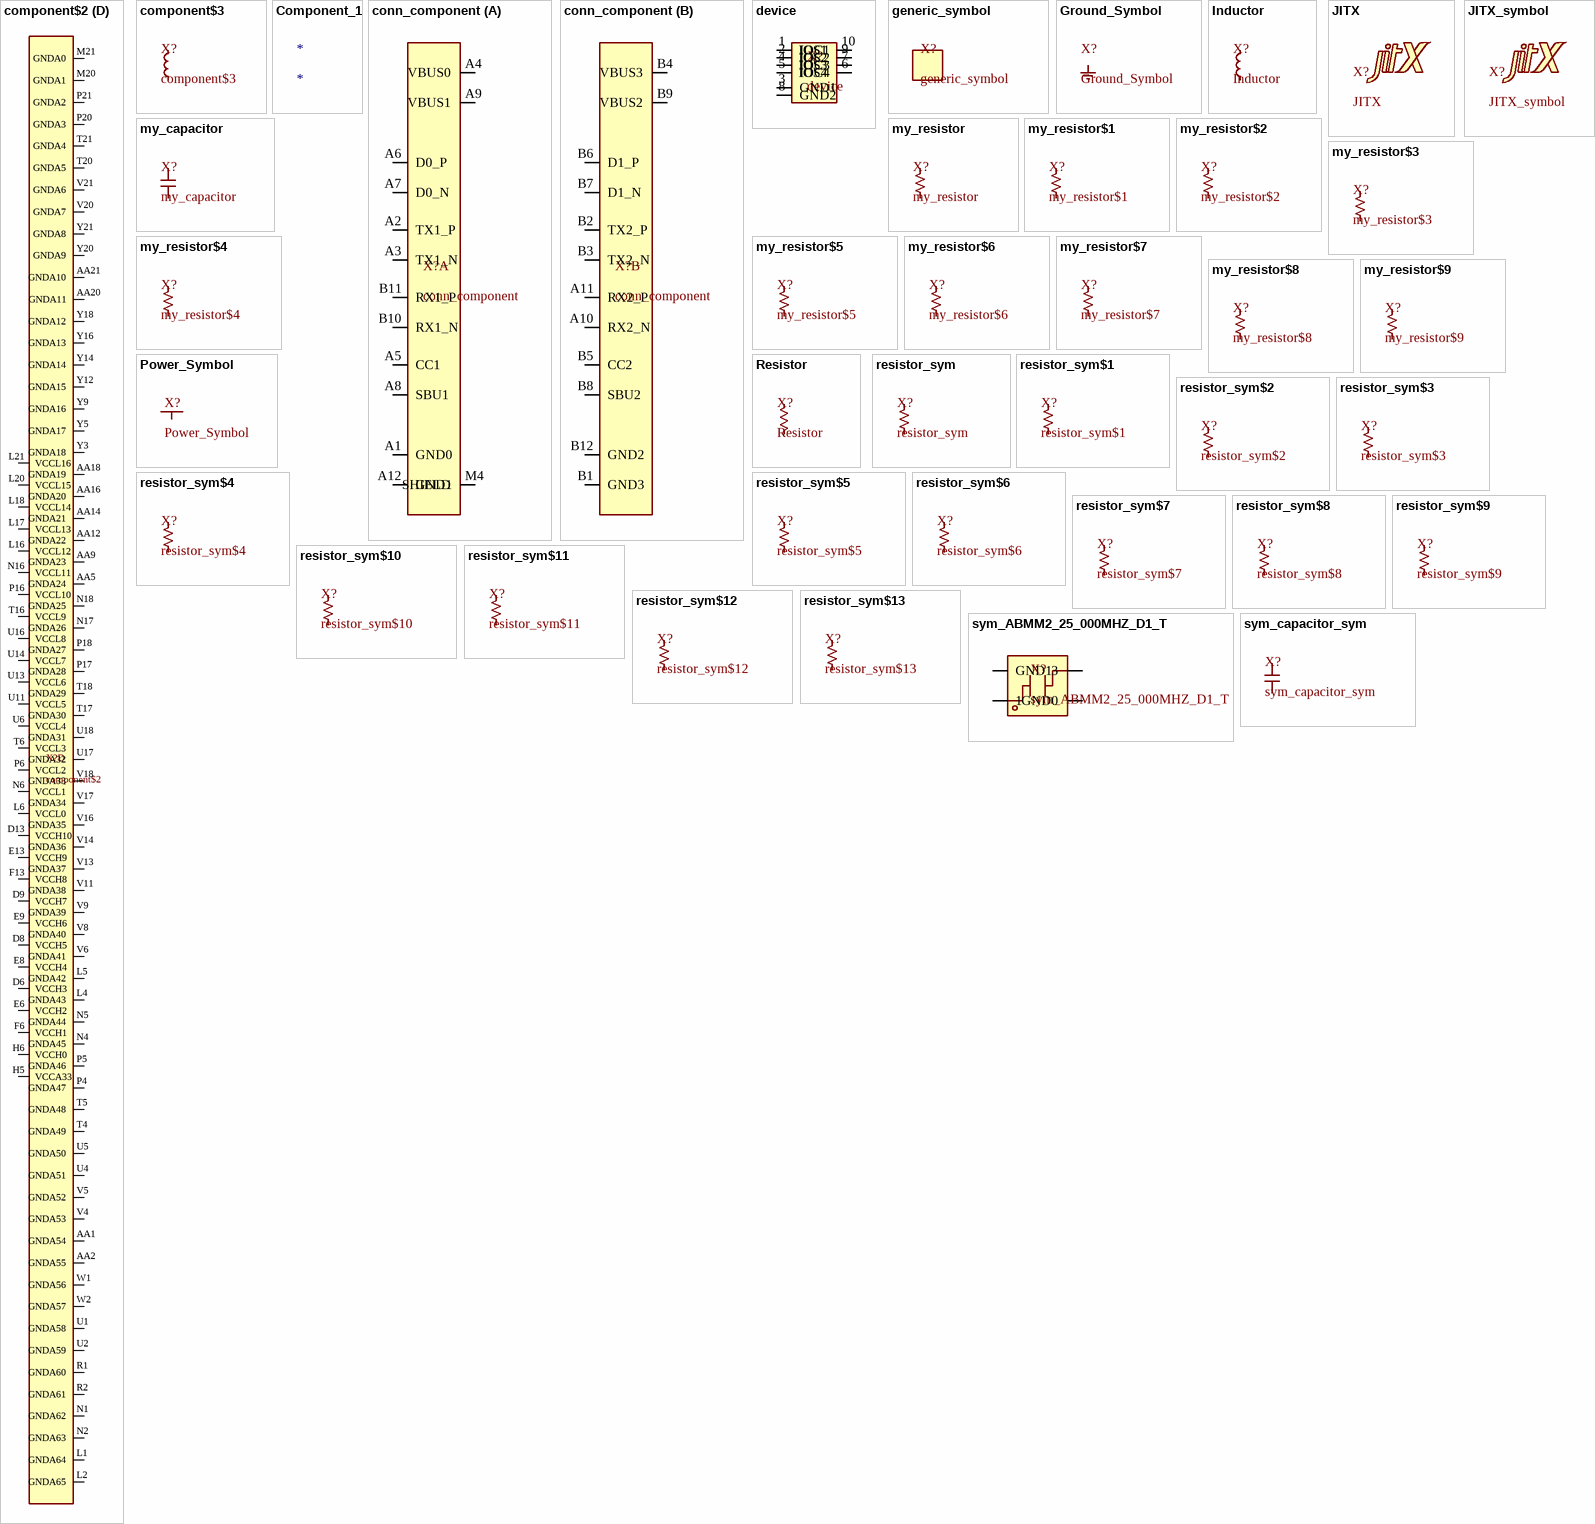
[diagram p2: symbols component$2 to sym_capacitor_sym]

## component$2
designator X?
REFERENCE: false; VALUE: false; VALUE: false; VALUE: false; VALUE: false; FOOTPRINT: ASM001-design:BGA273N46P21X21_1000X1000X98
footprint BGA273N46P21X21_1000X1000X98
part A pins: A1 GPIO3, A2 SPI_CS#, A3 SPI_DO, A4 SPI_DI, A5 SPI_CLK, A6 GPIO15, A7 GPIO16, A8 GPIO17, A9 GPIO18, A10 GPIO19, A11 GPIO20, A12 GPIO21, A13 GPIO22, A14 GPIO23, A15 GPIO24, A16 GPIO25, A17 GPIO26, A18 GPIO27, A19 GPIO8, A20 GPIO14, A21 UART_RX, AA3 UREXT, AA4 XI, AA6 CC1, AA8 REFCLKP0, AA13 PRXP3, AA15 PTXN3, AA17 PTXN2, AA19 PRXN2, B1 GPIO2, B21 UART_TX, C1 GPIO1, C21 HDDPC, D1 GPIO0, E1 I2C_CLK_P, F1 I2C_DATA_P, G1 VBUS, H1 RST#, H21 TEST_EN, J1 SBU2, K1 SBU1, M1 UDP, M2 UDM, N20 PRXN0, N21 PRXP0, P1 URXP0, P2 URXN0, R20 PTXP0, R21 PTXN0, T1 UTXP0, T2 UTXN0, U20 PTXP1, U21 PTXN1, V1 UTXN1, V2 UTXP1, W20 PRXN1, W21 PRXP1, Y1 URXN1, Y2 URXP1, Y4 XO, Y6 CC2, Y8 REFCLKN0, Y13 PRXN3, Y15 PTXP3, Y17 PTXP2, Y19 PRXP2
part B pins: AA7 REFCLKP3, AA10 REFCLKP2, AA11 REFCLKP1, B2 NC7, B3 NC8, B4 NC9, B5 NC10, B6 NC11, B7 NC12, B8 NC13, B9 NC14, B10 NC15, B11 NC16, B12 NC17, B13 NC18, B14 NC19, B15 NC20, B16 NC21, B17 NC22, B18 NC23, B19 NC24, B20 NC25, C2 NC6, C20 NC26, D2 NC5, D20 NC27, D21 PERST#3, E2 NC4, E20 NC28, E21 PERST#2, F2 NC3, F20 NC29, F21 PERST#1, G2 NC2, G20 NC30, G21 PERST#0, H2 NC1, H20 NC31, J2 NC0, Y7 REFCLKN3, Y10 REFCLKN2, Y11 REFCLKN1
part C pins: D4 GND1, D5 GND6, D11 GND16, D14 VDD17, D16 VDD10, D17 GND22, D18 GND26, E4 GND2, E5 GND7, E11 VDD25, E14 VDD16, E16 VDD9, E17 GND23, E18 GND27, F4 GND3, F5 GND8, F8 GND11, F9 VDD37, F11 VDD26, F14 VDD15, F16 VDD8, F17 GND24, F18 GND28, H4 GND4, H8 GND12, H9 VDD36, H11 VDD39, H13 VDD14, H14 VDD13, H16 VDD7, H17 GND25, H18 GND29, J4 GND5, J5 GND9, J6 GND10, J8 VDD34, J9 VDD35, J11 GND17, J13 VDD12, J14 VDD11, J16 VDD6, J17 VDD5, J18 VDD4, J20 VDD1, J21 VDD0, K2 GND0, K20 VDD3, K21 VDD2, L8 VDD33, L9 GND13, L11 VDD18, L13 GND20, L14 VDD19, N8 VDD32, N9 GND14, N11 GND18, N13 GND21, N14 VDD20, P8 VDD31, P9 GND15, P11 GND19, P13 VDD23, P14 VDD21, T8 VDD29, T9 VDD30, T11 VDD38, T13 VDD24, T14 VDD22, U8 VDD27, U9 VDD28
part D pins: AA1 GNDA54, AA2 GNDA55, AA5 GNDA24, AA9 GNDA23, AA12 GNDA22, AA14 GNDA21, AA16 GNDA20, AA18 GNDA19, AA20 GNDA11, AA21 GNDA10, D6 VCCH3, D8 VCCH5, D9 VCCH7, D13 VCCH10, E6 VCCH2, E8 VCCH4, E9 VCCH6, E13 VCCH9, F6 VCCH1, F13 VCCH8, H5 VCCA33, H6 VCCH0, L1 GNDA64, L2 GNDA65, L4 GNDA43, L5 GNDA42, L6 VCCL0, L16 VCCL12, L17 VCCL13, L18 VCCL14, L20 VCCL15, L21 VCCL16, M20 GNDA1, M21 GNDA0, N1 GNDA62, N2 GNDA63, N4 GNDA45, N5 GNDA44, N6 VCCL1, N16 VCCL11, N17 GNDA26, N18 GNDA25, P4 GNDA47, P5 GNDA46, P6 VCCL2, P16 VCCL10, P17 GNDA28, P18 GNDA27, P20 GNDA3, P21 GNDA2, R1 GNDA60, R2 GNDA61, T4 GNDA49, T5 GNDA48, T6 VCCL3, T16 VCCL9, T17 GNDA30, T18 GNDA29, T20 GNDA5, T21 GNDA4, U1 GNDA58, U2 GNDA59, U4 GNDA51, U5 GNDA50, U6 VCCL4, U11 VCCL5, U13 VCCL6, U14 VCCL7, U16 VCCL8, U17 GNDA32, U18 GNDA31, V4 GNDA53, V5 GNDA52, V6 GNDA41, V8 GNDA40, V9 GNDA39, V11 GNDA38, V13 GNDA37, V14 GNDA36, V16 GNDA35, V17 GNDA34, V18 GNDA33, V20 GNDA7, V21 GNDA6, W1 GNDA56, W2 GNDA57, Y3 GNDA18, Y5 GNDA17, Y9 GNDA16, Y12 GNDA15, Y14 GNDA14, Y16 GNDA13, Y18 GNDA12, Y20 GNDA9, Y21 GNDA8

## component$3
designator X?
REFERENCE: false; VALUE: false; derate-temp: 65.0; rated-current: Toleranced(2.3 <= 2.3 <= 2.3); inductance: Toleranced(8.0e-007 <= 1.0e-006 <= 1.2e-006); DC-resistance: Toleranced(0.039 <= 0.039 <= 0.046); self-resonant-frequency: 115000000.0; derate-current: Toleranced(2.6 <= 2.6 <= 2.6); FOOTPRINT: ASM001-design:MOLDED
footprint MOLDED
pins: a, c

## Component_1
designator *

## conn_component
designator X?
REFERENCE: false; VALUE: false; rated-temperature: Toleranced(-40.0 <= 32.5 <= 105.0); VALUE: false; FOOTPRINT: ASM001-design:USB_TYPE_C_CONNECTOR
footprint USB_TYPE_C_CONNECTOR; pin to pad M4>M4+M3+M2+M1
part A pins: A1 GND0, A2 TX1_P, A3 TX1_N, A4 VBUS0, A5 CC1, A6 D0_P, A7 D0_N, A8 SBU1, A9 VBUS1, A12 GND1, B10 RX1_N, B11 RX1_P, M4 SHIELD
part B pins: A10 RX2_N, A11 RX2_P, B1 GND3, B2 TX2_P, B3 TX2_N, B4 VBUS3, B5 CC2, B6 D1_P, B7 D1_N, B8 SBU2, B9 VBUS2, B12 GND2

## device
designator X?
REFERENCE: false; VALUE: false; num-single-chs: 4; num-dp-chs: 2; FOOTPRINT: ASM001-design:USON_10
footprint USON_10
pins: 1 IOC1, 2 IOC2, 3 GND1, 4 IOC3, 5 IOC4, 6 IOS4, 7 IOS3, 8 GND2, 9 IOS2, 10 IOS1

## generic_symbol
designator X?
VALUE: false; REFERENCE: false

## Ground_Symbol
designator X?
VALUE: false
pins: 0

## Inductor
designator X?
REFERENCE: false; VALUE: false
pins: a, c

## JITX
designator X?
VALUE: false; REFERENCE: false; FOOTPRINT: ASM001-design:JITX_SM_LP
footprint JITX_SM_LP

## JITX_symbol
designator X?
VALUE: false; REFERENCE: false

## my_capacitor
designator X?
mpn_aliases: ["04025A100FAT2A"]; manufacturer_aliases: ["AVX Corporation"]; VALUE: false; cofactr_id: CCOVHWU6D1V4; metadata.applications: General Purpose; metadata.packaging: Tape & Reel (TR); reference_prefix: C; rated-temperature: Toleranced(-55.0 <= 35.0 <= 125.0); area: 0.5; tolerance: Toleranced(9.9e-012 <= 1.0e-011 <= 1.01e-011); capacitance: 1.0e-011; temperature-coefficent: C0G; rated-voltage: 50.0; trust: low; y: 1.0; z: 0.56; metadata.description: CAP CER 10PF 50V NP0 0402; REFERENCE: false; FOOTPRINT: ASM001-design:LP; mounting: smd; case: 0402; x: 0.5; type: ceramic; category: capacitor
footprint LP
pins: 1, 2

## my_resistor
designator X?
mpn_aliases: ["SC0201F2003G1BNRH"]; mpn: SC0201F2003G1BNRH; manufacturer_aliases: ["Sunway"]; manufacturer: Sunway; REFERENCE: false; VALUE: false; reference_prefix: R; resistor: true; area: 0.18; tolerance: Toleranced(198000.0 <= 200000.0 <= 202000.0); query-properties: ["case" => ["0201" "0603m" "0202" "0606m" "0204" "0510m" "Wide 0402" "0306" "0816m" "Wide 0603" "0402" "1005m" "0505" "1414m" "0508" "1220m" "Wide 0805" "0603" "1608m" "0612" "1632m" "Wide 1206" "0805" "2012m" "1111" "2828m" "1206" "3216m" "1210" "3225m" "1218" "3246m" "Wide 1812" "1225" "3263m" "Wide 2512" "1530" "3876m" "Wide 3015" "1808" "4520m" "1812" "4532m" "1825" "4564m" "1835" "4589" "Wide 3518" "5020m" "2010" "5025m" "2043" "Wide 4320" "2220" "5750m" "2225" "5763m" "2312" "6032m" "2512" "6331m" "2725" "7142m" "2728" "7142m" "Wide 2827" "2816" "2817" "7142m" "2953" "Wide 5929" "3920" "1052m"] "min-resistance" => 200000.0 "max-resistance" => 242000.0 "tolerance" => 0.01 "category" => "resistor" "mounting" => "smd" "min-stock" => 1 "_sellers" => ["JLCPCB"]]; x: 0.3; trust: low; y: 0.6; resistance: 200000.0; minimum_quantity: 20; rated-power: 0.05; metadata.description: 50mW ±1% ±200ppm/℃ 200kΩ 0201  Chip Resistor - Surface Mount ROHS; FOOTPRINT: ASM001-design:Pkg0201$1; vendor_part_numbers.lcsc: C3152021; mounting: smd; price: 0.000492754; case: 0201; stock: 7233; category: resistor
footprint Pkg0201$1
pins: 1, 2

## my_resistor$1
designator X?
mpn_aliases: ["SC0402F0000I2ANRH"]; mpn: SC0402F0000I2ANRH; manufacturer_aliases: ["Sunway"]; manufacturer: Sunway; REFERENCE: false; VALUE: false; reference_prefix: R; resistor: true; area: 0.5; tolerance: Toleranced(0.0 <= 0.0 <= 0.0); query-properties: ["tolerance" => 0.01 "resistance" => 0.0 "category" => "resistor" "min-stock" => 1 "_sellers" => ["JLCPCB"]]; trust: low; y: 1.0; minimum_quantity: 20; rated-power: 0.0625; metadata.description: 62.5mW ±300ppm/℃ ±1% 0Ω 0402  Chip Resistor - Surface Mount ROHS; FOOTPRINT: ASM001-design:Pkg0402$6; vendor_part_numbers.lcsc: C3152056; mounting: smd; price: 0.000362319; case: 0402; stock: 100806; x: 0.5; category: resistor
footprint Pkg0402$6
pins: 1, 2

## my_resistor$2
designator X?
mpn_aliases: ["SC0402F0000I2ANRH"]; mpn: SC0402F0000I2ANRH; manufacturer_aliases: ["Sunway"]; manufacturer: Sunway; REFERENCE: false; VALUE: false; reference_prefix: R; resistor: true; area: 0.5; tolerance: Toleranced(0.0 <= 0.0 <= 0.0); query-properties: ["resistance" => 0.0 "tolerance" => 0.01 "category" => "resistor" "case" => ["0402" "0603" "0805" "1210"] "mounting" => "smd" "min-stock" => 1 "_sellers" => ["JLCPCB"]]; trust: low; y: 1.0; minimum_quantity: 20; rated-power: 0.0625; metadata.description: 62.5mW ±300ppm/℃ ±1% 0Ω 0402  Chip Resistor - Surface Mount ROHS; FOOTPRINT: ASM001-design:Pkg0402$3; vendor_part_numbers.lcsc: C3152056; mounting: smd; price: 0.000362319; case: 0402; stock: 100806; x: 0.5; category: resistor
footprint Pkg0402$3
pins: 1, 2

## my_resistor$3
designator X?
manufacturer_aliases: ["YAGEO"]; manufacturer: YAGEO; mpn_aliases: ["RT0603BRD0726K1L"]; mpn: RT0603BRD0726K1L; REFERENCE: false; VALUE: false; metadata.number-of-terminations: 2.0; TCR: [-2.5e-005 2.5e-005]; metadata.packaging: Cut Tape (CT); reference_prefix: R; resistor: true; area: 1.28; tolerance: Toleranced(26073.9 <= 26100.0 <= 26126.1); query-properties: ["tolerance" => 0.001 "_exist" => ["tcr.pos" "tcr.neg"] "resistance" => 26100.0 "category" => "resistor" "case" => ["0402" "0603" "0805" "1210"] "mounting" => "smd" "min-stock" => 1 "_sellers" => ["JLCPCB"]]; trust: low; minimum_quantity: 20; cofactr_id: RCENZ0MSUF8I; rated-temperature: Toleranced(-55.0 <= 50.0 <= 155.0); x: 0.8; y: 1.6; resistance: 26100.0; z: 0.55; rated-power: 0.1; metadata.description: 100mW Thin Film Resistor ±25ppm/℃ ±0.1% 26.1kΩ 0603  Chip Resistor - Surface Mount ROHS; FOOTPRINT: ASM001-design:Pkg0603; vendor_part_numbers.lcsc: C728586; price: 0.020869565; stock: 2; mounting: smd; composition: thin-film; case: 0603; metadata.supplier-device-package: 603; vendor_part_numbers.digi-key: YAG1603CT-ND; type: chip; category: resistor
footprint Pkg0603
pins: 1, 2

## my_resistor$4
designator X?
mpn_aliases: ["SC0402F0000I2ANRH"]; mpn: SC0402F0000I2ANRH; manufacturer_aliases: ["Sunway"]; manufacturer: Sunway; REFERENCE: false; VALUE: false; reference_prefix: R; resistor: true; area: 0.5; tolerance: Toleranced(0.0 <= 0.0 <= 0.0); query-properties: ["tolerance" => 0.01 "resistance" => 0.0 "category" => "resistor" "min-stock" => 1 "_sellers" => ["JLCPCB"]]; trust: low; y: 1.0; minimum_quantity: 20; rated-power: 0.0625; metadata.description: 62.5mW ±300ppm/℃ ±1% 0Ω 0402  Chip Resistor - Surface Mount ROHS; FOOTPRINT: ASM001-design:Pkg0402$16; vendor_part_numbers.lcsc: C3152056; mounting: smd; price: 0.000362319; case: 0402; stock: 100806; x: 0.5; category: resistor
footprint Pkg0402$16
pins: 1, 2

## my_resistor$5
designator X?
mpn_aliases: ["SC0402F0000I2ANRH"]; mpn: SC0402F0000I2ANRH; manufacturer_aliases: ["Sunway"]; manufacturer: Sunway; REFERENCE: false; VALUE: false; reference_prefix: R; resistor: true; area: 0.5; tolerance: Toleranced(0.0 <= 0.0 <= 0.0); query-properties: ["tolerance" => 0.01 "resistance" => 0.0 "category" => "resistor" "min-stock" => 1 "_sellers" => ["JLCPCB"]]; trust: low; y: 1.0; minimum_quantity: 20; rated-power: 0.0625; metadata.description: 62.5mW ±300ppm/℃ ±1% 0Ω 0402  Chip Resistor - Surface Mount ROHS; FOOTPRINT: ASM001-design:Pkg0402$12; vendor_part_numbers.lcsc: C3152056; mounting: smd; price: 0.000362319; case: 0402; stock: 100806; x: 0.5; category: resistor
footprint Pkg0402$12
pins: 1, 2

## my_resistor$6
designator X?
manufacturer_aliases: ["YAGEO"]; manufacturer: YAGEO; mpn_aliases: ["RT0402BRD074K12L"]; mpn: RT0402BRD074K12L; REFERENCE: false; VALUE: false; metadata.number-of-terminations: 2.0; TCR: [-2.5e-005 2.5e-005]; metadata.packaging: Tape & Reel (TR); reference_prefix: R; resistor: true; area: 0.5; tolerance: Toleranced(4115.88 <= 4120.0 <= 4124.12); query-properties: ["tolerance" => 0.001 "_exist" => ["tcr.pos" "tcr.neg"] "resistance" => 4120.0 "category" => "resistor" "case" => ["0402" "0603" "0805" "1210"] "mounting" => "smd" "min-stock" => 1 "_sellers" => ["JLCPCB"]]; trust: low; minimum_quantity: 20; cofactr_id: RCOMYQH3LXUN; rated-temperature: Toleranced(-55.0 <= 50.0 <= 155.0); y: 1.0; resistance: 4120.0; z: 0.35; rated-power: 0.063; metadata.description: 62.5mW Thin Film Resistor ±25ppm/℃ ±0.1% 4.12kΩ 0402  Chip Resistor - Surface Mount ROHS; FOOTPRINT: ASM001-design:Pkg0402$7; vendor_part_numbers.lcsc: C852812; price: 0.016086957; stock: 75; mounting: smd; composition: thin-film; case: 0402; metadata.supplier-device-package: 402; vendor_part_numbers.digi-key: YAG4272TR-ND; x: 0.5; type: chip; category: resistor
footprint Pkg0402$7
pins: 1, 2

## my_resistor$7
designator X?
mpn_aliases: ["SCR0402F4K7"]; mpn: SCR0402F4K7; manufacturer_aliases: ["VO"]; manufacturer: VO; REFERENCE: false; VALUE: false; cofactr_id: RC99FREJ1KLN; reference_prefix: R; resistor: true; area: 0.5; tolerance: Toleranced(4653.0 <= 4700.0 <= 4747.0); query-properties: ["case" => ["0201" "0402"] "resistance" => 4700.0 "tolerance" => 0.01 "category" => "resistor" "mounting" => "smd" "min-stock" => 1 "_sellers" => ["JLCPCB"]]; trust: low; y: 1.0; resistance: 4700.0; minimum_quantity: 20; metadata.description: ±1% 4.7kΩ 0402  Chip Resistor - Surface Mount ROHS; FOOTPRINT: ASM001-design:Pkg0402$10; vendor_part_numbers.lcsc: C3015810; mounting: smd; price: 0.000405797; case: 0402; stock: 1006; x: 0.5; category: resistor
footprint Pkg0402$10
pins: 1, 2

## my_resistor$8
designator X?
mpn_aliases: ["SC0201F1003G1BNRH"]; mpn: SC0201F1003G1BNRH; manufacturer_aliases: ["Sunway"]; manufacturer: Sunway; REFERENCE: false; VALUE: false; reference_prefix: R; resistor: true; area: 0.18; tolerance: Toleranced(99000.0 <= 100000.0 <= 101000.0); query-properties: ["case" => ["0201" "0402"] "resistance" => 100000.0 "tolerance" => 0.01 "category" => "resistor" "mounting" => "smd" "min-stock" => 1 "_sellers" => ["JLCPCB"]]; x: 0.3; trust: low; y: 0.6; resistance: 100000.0; minimum_quantity: 20; rated-power: 0.05; metadata.description: 50mW ±1% ±200ppm/℃ 100kΩ 0201  Chip Resistor - Surface Mount ROHS; FOOTPRINT: ASM001-design:Pkg0201$2; vendor_part_numbers.lcsc: C3152012; mounting: smd; price: 0.000463768; case: 0201; stock: 11487; category: resistor
footprint Pkg0201$2
pins: 1, 2

## my_resistor$9
designator X?
mpn_aliases: ["FRC0402F4301TS"]; mpn: FRC0402F4301TS; manufacturer_aliases: ["FOJAN"]; manufacturer: FOJAN; REFERENCE: false; VALUE: false; reference_prefix: R; resistor: true; area: 0.5; tolerance: Toleranced(4257.0 <= 4300.0 <= 4343.0); query-properties: ["tolerance" => 0.01 "_exist" => ["tcr.pos" "tcr.neg"] "resistance" => 4300.0 "category" => "resistor" "case" => ["0402" "0603" "0805" "1210"] "mounting" => "smd" "min-stock" => 1 "_sellers" => ["JLCPCB"]]; trust: low; y: 1.0; resistance: 4300.0; minimum_quantity: 20; rated-power: 0.0625; metadata.description: 62.5mW Thick Film Resistors ±100ppm/℃ ±1% 4.3kΩ 0402  Chip Resistor - Surface Mount ROHS; FOOTPRINT: ASM001-design:Pkg0402; vendor_part_numbers.lcsc: C2930008; mounting: smd; price: 0.000463768; case: 0402; stock: 1274; x: 0.5; category: resistor
footprint Pkg0402
pins: 1, 2

## Power_Symbol
designator X?
VALUE: false
pins: 0

## Resistor
designator X?
REFERENCE: false; VALUE: false
pins: 1, 2

## resistor_sym
designator X?
REFERENCE: false; VALUE: false
pins: 1, 2

## resistor_sym$1
designator X?
REFERENCE: false; VALUE: false
pins: 1, 2

## resistor_sym$2
designator X?
REFERENCE: false; VALUE: false
pins: 1, 2

## resistor_sym$3
designator X?
REFERENCE: false; VALUE: false
pins: 1, 2

## resistor_sym$4
designator X?
REFERENCE: false; VALUE: false
pins: 1, 2

## resistor_sym$5
designator X?
REFERENCE: false; VALUE: false
pins: 1, 2

## resistor_sym$6
designator X?
REFERENCE: false; VALUE: false
pins: 1, 2

## resistor_sym$7
designator X?
REFERENCE: false; VALUE: false
pins: 1, 2

## resistor_sym$8
designator X?
REFERENCE: false; VALUE: false
pins: 1, 2

## resistor_sym$9
designator X?
REFERENCE: false; VALUE: false
pins: 1, 2

## resistor_sym$10
designator X?
REFERENCE: false; VALUE: false
pins: 1, 2

## resistor_sym$11
designator X?
REFERENCE: false; VALUE: false
pins: 1, 2

## resistor_sym$12
designator X?
REFERENCE: false; VALUE: false
pins: 1, 2

## resistor_sym$13
designator X?
REFERENCE: false; VALUE: false
pins: 1, 2

## sym_ABMM2_25_000MHZ_D1_T
designator X?
VALUE: false; REFERENCE: false
pins: 1, 3, GND0, GND1

## sym_capacitor_sym
designator X?
VALUE: false; REFERENCE: false
pins: 1, 2

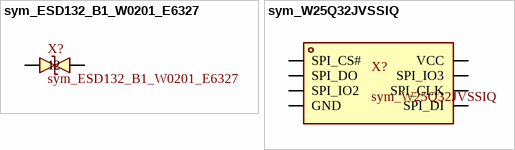
[diagram p3: symbols sym_ESD132_B1_W0201_E6327 to sym_W25Q32JVSSIQ]

## sym_ESD132_B1_W0201_E6327
designator X?
VALUE: false; REFERENCE: false
pins: 1, 2

## sym_W25Q32JVSSIQ
designator X?
VALUE: false; REFERENCE: false
pins: GND, SPI_CLK, SPI_CS#, SPI_DI, SPI_DO, SPI_IO2, SPI_IO3, VCC